# Altium schematic symbol library DAC.SchLib: 2 symbols
Pins are listed as number, name and electrical type; pins without a type are passive.

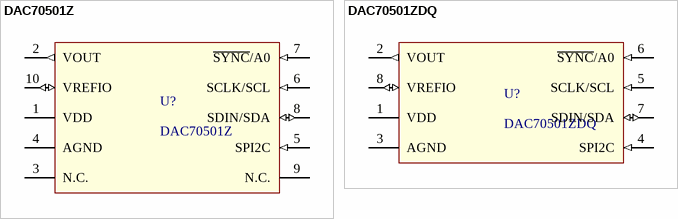
[diagram p0: symbols DAC70501Z to DAC70501ZDQ]

## DAC70501Z
designator U?
Voltage-Output DAC with precision internal reference.; Manufacture: Texas Instruments; Part number: DAC70501ZDGST
footprint VSSOP10
pins: 1 VDD (power) "Analog supply voltage (2.7V to 5.5V)", 2 VOUT (out) "Analog output voltage from the DAC.", 3 N.C. "No connection. Leave floating.", 4 AGND (power) "Ground reference point for all circuitry on hte device.", 5 SPI2C (in) "Interface select pin. Must be kept static after device powers up. Digital interface in SPI mode if SPI2C = 0. Digital interface in I2C mode if SPI2C = 1.", 6 SCLK/SCL (in) "Serial interface clock. SPI or I2C mode.", 7 ~{SYNC}/A0 (in) "SPI mode: Active low serial data enable. This input is the frame synchronization signal for the serial data. When the signal goes low, the serial interface input shift register is enabled. I2C mode: Four-state address input 0.", 8 SDIN/SDA (io) "SPI mode: Serial interface data input. Data are clocked into the input shift register on each falling edge og the SCLK pin. I2C mode: Data are clocked into or out of the input register. This pin is a bidirectional, SDA drain data line that must be connected to the supply voltage with an external pullup resistor.", 9 N.C. "No connection. Leave floating.", 10 VREFIO (io) "When using the internal reference, this pin is the reference outpur voltage pin(default). Reference input to the device when operating with external reference."

## DAC70501ZDQ
designator U?
Voltage-Output DAC with precision internal reference.; Manufacture: Texas Instruments; Part number: DAC70501ZDQFT
footprint WSON8 (WSON, 8-Leads, Body 2,00x2,00mm, Pitch 0,50mm, IPC Medium Density)
pins: 1 VDD (power) "Analog supply voltage (2.7V to 5.5V)", 2 VOUT (out) "Analog output voltage from the DAC.", 3 AGND (power) "Ground reference point for all circuitry on hte device.", 4 SPI2C (in) "Interface select pin. Must be kept static after device powers up. Digital interface in SPI mode if SPI2C = 0. Digital interface in I2C mode if SPI2C = 1.", 5 SCLK/SCL (in) "Serial interface clock. SPI or I2C mode.", 6 ~{SYNC}/A0 (in) "SPI mode: Active low serial data enable. This input is the frame synchronization signal for the serial data. When the signal goes low, the serial interface input shift register is enabled. I2C mode: Four-state address input 0.", 7 SDIN/SDA (io) "SPI mode: Serial interface data input. Data are clocked into the input shift register on each falling edge og the SCLK pin. I2C mode: Data are clocked into or out of the input register. This pin is a bidirectional, SDA drain data line that must be connected to the supply voltage with an external pullup resistor.", 8 VREFIO (io) "When using the internal reference, this pin is the reference outpur voltage pin(default). Reference input to the device when operating with external reference."